# Altium schematic symbol library sch.SCHLIB: 35 symbols
Pins are listed as number, name and electrical type; pins without a type are passive.

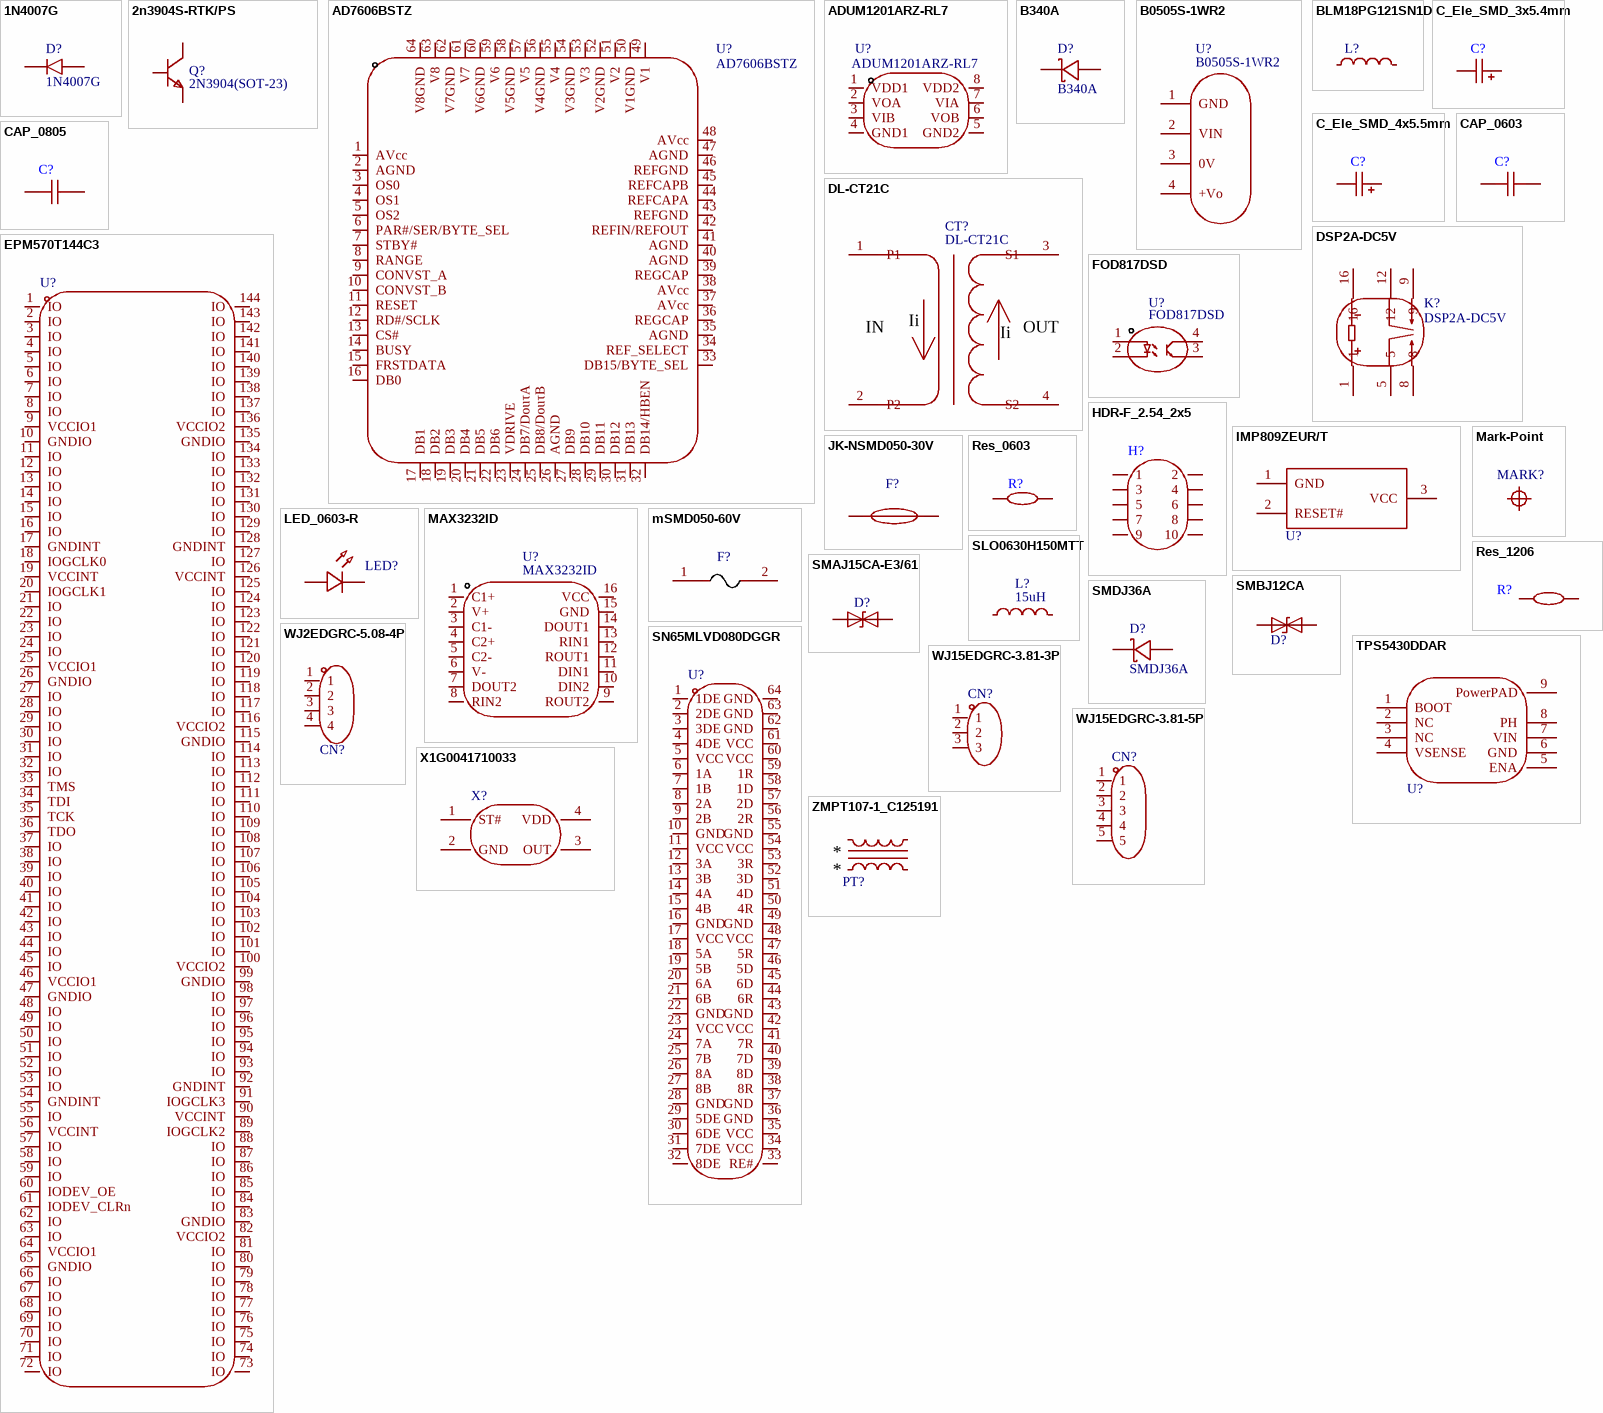
[diagram p0: symbols 1N4007G to ZMPT107-1_C125191]

## 1N4007G
designator D?
Device: 1N4007G
footprint SMA_L4.4-W2.6-LS5.0-RD
pins: 1 C, 2 A

## 2n3904S-RTK/PS
designator Q?, comment 2N3904(SOT-23)
Device: 2n3904S-RTK/PS
footprint SOT-23-3_L2.9-W1.3-P1.90-LS2.4-TR
pins: 1 E, 2 B, 3 C

## AD7606BSTZ
designator U?
Device: AD7606BSTZ
footprint LQFP-64_L10.0-W10.0-P0.50-LS12.0-BL
pins: 1 AVcc, 2 AGND, 3 OS0, 4 OS1, 5 OS2, 6 PAR#/SER/BYTE_SEL, 7 STBY#, 8 RANGE, 9 CONVST_A, 10 CONVST_B, 11 RESET, 12 RD#/SCLK, 13 CS#, 14 BUSY, 15 FRSTDATA, 16 DB0, 17 DB1, 18 DB2, 19 DB3, 20 DB4, 21 DB5, 22 DB6, 23 VDRIVE, 24 DB7/DouτA, 25 DB8/DouτB, 26 AGND, 27 DB9, 28 DB10, 29 DB11, 30 DB12, 31 DB13, 32 DB14/HBEN, 33 DB15/BYTE_SEL, 34 REF_SELECT, 35 AGND, 36 REGCAP, 37 AVcc, 38 AVcc, 39 REGCAP, 40 AGND, 41 AGND, 42 REFIN/REFOUT, 43 REFGND, 44 REFCAPA, 45 REFCAPB, 46 REFGND, 47 AGND, 48 AVcc, 49 V1, 50 V1GND, 51 V2, 52 V2GND, 53 V3, 54 V3GND, 55 V4, 56 V4GND, 57 V5, 58 V5GND, 59 V6, 60 V6GND, 61 V7, 62 V7GND, 63 V8, 64 V8GND

## ADUM1201ARZ-RL7
designator U?
Device: ADUM1201ARZ-RL7
footprint SOIC-8_L4.9-W3.9-P1.27-LS6.0-BL
pins: 1 VDD1, 2 VOA, 3 VIB, 4 GND1, 5 GND2, 6 VOB, 7 VIA, 8 VDD2

## B340A
designator D?
Device: B340A
footprint SMA_L4.3-W2.6-LS5.2-RD
pins: 1 K, 2 A

## B0505S-1WR2
designator U?
Device: B0505S-1WR2
footprint PWRM-TH_BXXXXS-1WR2
pins: 1 GND, 2 VIN, 3 0V, 4 +Vo

## BLM18PG121SN1D
designator L?  (value not drawn)
Device: BLM18PG121SN1D
footprint L0603
3D model L0603_L1.6-W0.8-H0.5_BEAD
pins: 1, 2

## C_Ele_SMD_3x5.4mm
designator C?, comment 10uF  (value not drawn)
Device: C_Ele_SMD_3x5.4mm
footprint C_Ele_SMD_3x5.4mm
3D model CAP-SMD_BD3.0-L3.3-W3.3-H5.3
pins: 1, 2

## C_Ele_SMD_4x5.5mm
designator C?, comment 220uF  (value not drawn)
Device: C_Ele_SMD_4x5.5mm
footprint C_Ele_SMD_4x5.5mm
3D model CAP-SMD_L4.3-W4.3-H5.3-LS5.1
pins: 1, 2

## CAP_0603
designator C?, comment 100nF  (value not drawn)
Device: CAP_0603
footprint C0603
3D model C0603_L1.6-W0.8-H0.8
pins: 1, 2

## CAP_0805
designator C?, comment 10uF  (value not drawn)
Device: CAP_0805
footprint C0805
3D model C0805_L2.0-W1.3-H1.3
pins: 1, 2

## DL-CT21C
designator CT?
Device: DL-CT21C
footprint DL-CT21C
pins: 1 P1, 2 P2, 3 S1, 4 S2
text: Ii; IN; OUT

## DSP2A-DC5V
designator K?
Device: DSP2A-DC5V
footprint RELAY-TH_DSP2A-DC5V
pins: 1, 5, 8, 9, 12, 16

## EPM570T144C3
designator U?  (value not drawn)
Device: EPM570T144C3
footprint TQFP-144_L20.0-W20.0-P0.50-LS22.0-BL
3D model TQFP-144_L20.0-W20.0-P0.50-LS22.0-BL
pins: 1 IO, 2 IO, 3 IO, 4 IO, 5 IO, 6 IO, 7 IO, 8 IO, 9 VCCIO1, 10 GNDIO, 11 IO, 12 IO, 13 IO, 14 IO, 15 IO, 16 IO, 17 GNDINT, 18 IOGCLK0, 19 VCCINT, 20 IOGCLK1, 21 IO, 22 IO, 23 IO, 24 IO, 25 VCCIO1, 26 GNDIO, 27 IO, 28 IO, 29 IO, 30 IO, 31 IO, 32 IO, 33 TMS, 34 TDI, 35 TCK, 36 TDO, 37 IO, 38 IO, 39 IO, 40 IO, 41 IO, 42 IO, 43 IO, 44 IO, 45 IO, 46 VCCIO1, 47 GNDIO, 48 IO, 49 IO, 50 IO, 51 IO, 52 IO, 53 IO, 54 GNDINT, 55 IO, 56 VCCINT, 57 IO, 58 IO, 59 IO, 60 IODEV_OE, 61 IODEV_CLRn, 62 IO, 63 IO, 64 VCCIO1, 65 GNDIO, 66 IO, 67 IO, 68 IO, 69 IO, 70 IO, 71 IO, 72 IO, 73 IO, 74 IO, 75 IO, 76 IO, 77 IO, 78 IO, 79 IO, 80 IO, 81 IO, 82 VCCIO2, 83 GNDIO, 84 IO, 85 IO, 86 IO, 87 IO, 88 IO, 89 IOGCLK2, 90 VCCINT, 91 IOGCLK3, 92 GNDINT, 93 IO, 94 IO, 95 IO, 96 IO, 97 IO, 98 IO, 99 GNDIO, 100 VCCIO2, 101 IO, 102 IO, 103 IO, 104 IO, 105 IO, 106 IO, 107 IO, 108 IO, 109 IO, 110 IO, 111 IO, 112 IO, 113 IO, 114 IO, 115 GNDIO, 116 VCCIO2, 117 IO, 118 IO, 119 IO, 120 IO, 121 IO, 122 IO, 123 IO, 124 IO, 125 IO, 126 VCCINT, 127 IO, 128 GNDINT, 129 IO, 130 IO, 131 IO, 132 IO, 133 IO, 134 IO, 135 GNDIO, 136 VCCIO2, 137 IO, 138 IO, 139 IO, 140 IO, 141 IO, 142 IO, 143 IO, 144 IO

## FOD817DSD
designator U?
Device: FOD817DSD
footprint SMD-4_L4.6-W6.4-P2.54-LS10.0-BL
pins: 1 A, 2 C, 3 E, 4 C

## HDR-F_2.54_2x5
designator H?
Device: HDR-F_2.54_2x5
footprint HDR-TH_10P-P2.54-V-F-R2-C5-S2.54
3D model HDR2.54-F-LI-2X5P
pins: 1, 2, 3, 4, 5, 6, 7, 8, 9, 10

## IMP809ZEUR/T
designator U?  (value not drawn)
Device: IMP809ZEUR/T
footprint SOT-23-3_L2.9-W1.6-P1.90-LS2.8-BR
3D model SOT-23-3L_L2.9-W1.6-H1.1-LS2.8-P0.95
pins: 1 GND, 2 RESET#, 3 VCC

## JK-NSMD050-30V
designator F?  (value not drawn)
Device: JK-NSMD050-30V
footprint F1206
pins: 1, 2

## LED_0603-R
designator LED?
Device: LED_0603-R
footprint LED_0603
3D model LED-0603_R
pins: 1 C, 2 A

## Mark-Point
designator MARK?
Device: Mark-Point
footprint Mark-Point-1mm
pins: 1

## MAX3232ID
designator U?
Device: MAX3232ID
footprint SOIC-16_L9.9-W3.9-P1.27-LS6.0-BL
pins: 1 C1+, 2 V+, 3 C1-, 4 C2+, 5 C2-, 6 V-, 7 DOUT2, 8 RIN2, 9 ROUT2, 10 DIN2, 11 DIN1, 12 ROUT1, 13 RIN1, 14 DOUT1, 15 GND, 16 VCC

## mSMD050-60V
designator F?  (value not drawn)
Device: mSMD050-60V
footprint F1812
pins: 1, 2

## Res_0603
designator R?, comment 10K  (value not drawn)
Device: Res_0603
footprint R0603
3D model R0603
pins: 1, 2

## Res_1206
designator R?, comment 100K  (value not drawn)
Device: Res_1206
footprint R1206
3D model R1206_L3.2-W1.6-H0.6
pins: 1, 2

## SLO0630H150MTT
designator L?, comment 15uH
Device: SLO0630H150MTT
footprint IND-SMD_L7.1-W6.6_SLO0618H
pins: 1, 2

## SMAJ15CA-E3/61
designator D?  (value not drawn)
Device: SMAJ15CA-E3/61
footprint SMA_L4.3-W2.7-LS5.1-BI
pins: 1 K, 2 A

## SMBJ12CA
designator D?  (value not drawn)
Device: SMBJ12CA
footprint SMB_L4.6-W3.6-LS5.3-BI
pins: 1 K, 2 A

## SMDJ36A
designator D?
Device: SMDJ36A
footprint SMC_L6.9-W5.9-LS7.9-RD
pins: 1 K, 2 A

## SN65MLVD080DGGR
designator U?  (value not drawn)
Device: SN65MLVD080DGGR
footprint TSSOP-64_L17.0-W6.1-P0.50-LS8.1-BL
3D model TSSOP-64_L17.0-W6.1-H1.2-P0.50-LS8.1-BL
pins: 1 1DE, 2 2DE, 3 3DE, 4 4DE, 5 VCC, 6 1A, 7 1B, 8 2A, 9 2B, 10 GND, 11 VCC, 12 3A, 13 3B, 14 4A, 15 4B, 16 GND, 17 VCC, 18 5A, 19 5B, 20 6A, 21 6B, 22 GND, 23 VCC, 24 7A, 25 7B, 26 8A, 27 8B, 28 GND, 29 5DE, 30 6DE, 31 7DE, 32 8DE, 33 RE#, 34 VCC, 35 VCC, 36 GND, 37 GND, 38 8R, 39 8D, 40 7D, 41 7R, 42 VCC, 43 GND, 44 6R, 45 6D, 46 5D, 47 5R, 48 VCC, 49 GND, 50 4R, 51 4D, 52 3D, 53 3R, 54 VCC, 55 GND, 56 2R, 57 2D, 58 1D, 59 1R, 60 VCC, 61 VCC, 62 GND, 63 GND, 64 GND

## TPS5430DDAR
designator U?  (value not drawn)
Device: TPS5430DDAR
footprint ESOP-8_L4.9-W3.9-P1.27-LS6.0-TL-EP
3D model ESOP-8_L4.9-W3.9-P1.27-LS6.0-TL-EP
pins: 1 BOOT, 2 NC, 3 NC, 4 VSENSE, 5 ENA, 6 GND, 7 VIN, 8 PH, 9 PowerPAD

## WJ2EDGRC-5.08-4P
designator CN?  (value not drawn)
Device: WJ2EDGRC-5.08-4P
footprint CONN-TH_4P-P5.08_WJ2EDGRC-5.08-4P
3D model CONN-TH_WJ5.08-WI-4P-4
pins: 1, 2, 3, 4

## WJ15EDGRC-3.81-3P
designator CN?  (value not drawn)
Device: WJ15EDGRC-3.81-3P
footprint CONN-TH_3P-P3.81_WJ15EDGRC-3.81-3P
3D model CONN-TH_3P_L12.3-W9.2-H7.0-P3.81
pins: 1, 2, 3

## WJ15EDGRC-3.81-5P
designator CN?  (value not drawn)
Device: WJ15EDGRC-3.81-5P
footprint CONN-TH_5P-P3.81_WJ15EDGRC-3.81-5P
3D model CONN-TH_WJ3.81-WI-5P
pins: 1, 2, 3, 4, 5

## X1G0041710033
designator X?, comment 25MHz  (value not drawn)
Device: X1G0041710033
footprint OSC-SMD_4P-L2.5-W2.0-BL
3D model OSC-SMD_4P-L2.5-W2.0-H0.6
pins: 1 ST#, 2 GND, 3 OUT, 4 VDD

## ZMPT107-1_C125191
designator PT?, comment ZMPT107-1  (value not drawn)
Device: ZMPT107-1_C125191
footprint XFMR-TH_ZMPT107-1
3D model XFMR-TH_L19.0-W10.0-H18.2
pins: 1, 2, 3, 4